# EAGLE library part LMC8101 (library GW-devices)
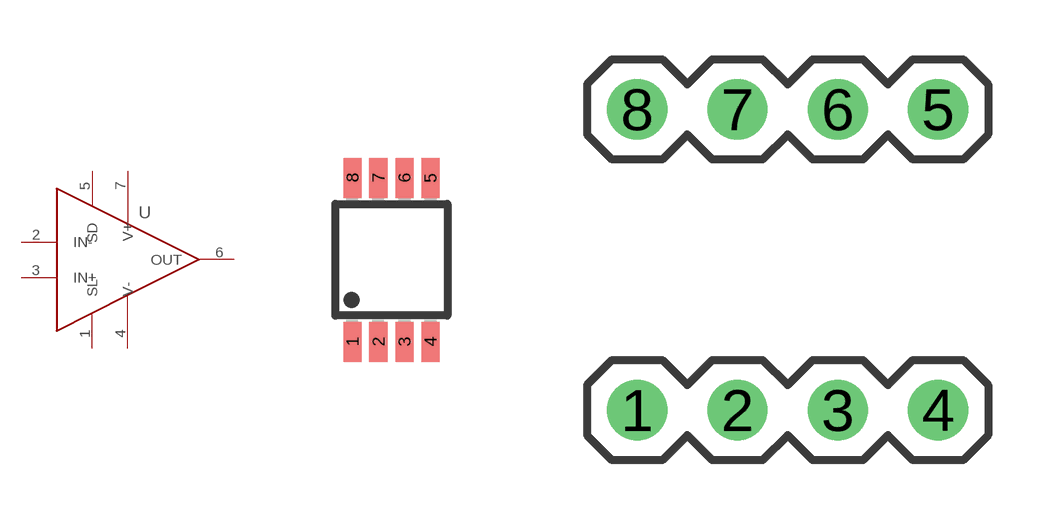
[diagram p9: symbol with the pads of MSOP8; footprints MSOP8, SMD8-TO-DIP]

Designator prefix -

## LMC8101  [MSOP8]
1  SL
2  IN-
3  IN+
4  V-
5  SD
6  OUT
7  V+

## LMC8101DIP  [SMD8-TO-DIP]
Pads as for MSOP8

## Footprint MSOP8 (pad centres in mm)
Micro Small Outline Package Grid .65mm
smd 0.45 x 1: 1 -0.975,-2.05; 2 -0.325,-2.05; 3 0.325,-2.05; 4 0.975,-2.05; 5 0.975,2.05; 6 0.325,2.05; 7 -0.325,2.05; 8 -0.975,2.05

## Footprint SMD8-TO-DIP (pad centres in mm)
drill 1.016: 1 -2.54,-2.54; 2 0,-2.54; 3 2.54,-2.54; 4 5.08,-2.54; 5 5.08,5.08; 6 2.54,5.08; 7 0,5.08; 8 -2.54,5.08